# EAGLE library part TRANSFORMER-AUX (library Others)
Transformer with Aux Coil. Created by: Wai Weng
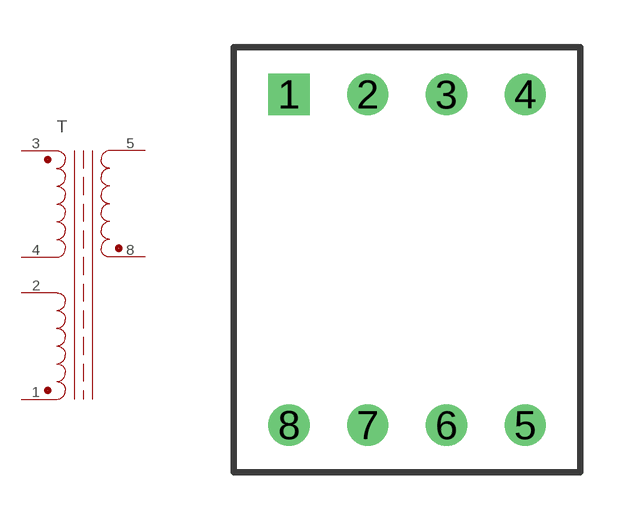
[diagram p4: symbol with the pads of TRANSFORMER-EE10; footprint TRANSFORMER-EE10]

Designator prefix T

## TRANSFORMER-AUX_170-14-14_(EE10) (DESC: Transformer 150-14-14 EE10; MPN: EE10-Q5)  [TRANSFORMER-EE10]
1  A1  pas
2  A2  pas
3  P1  pas
4  P2  pas
5  S2  pas
8  S1  pas

## Footprint TRANSFORMER-EE10 (pad centres in mm)
Transformer - EE10 Created by: Wai Weng
drill 0.8 square: 1 -3.75,5.25
drill 0.8: 2 -1.25,5.25; 3 1.25,5.25; 4 3.75,5.25; 5 3.75,-5.25; 6 1.25,-5.25; 7 -1.25,-5.25; 8 -3.75,-5.25